# EAGLE library part USB_MICRO (library __MyCommonLib1)
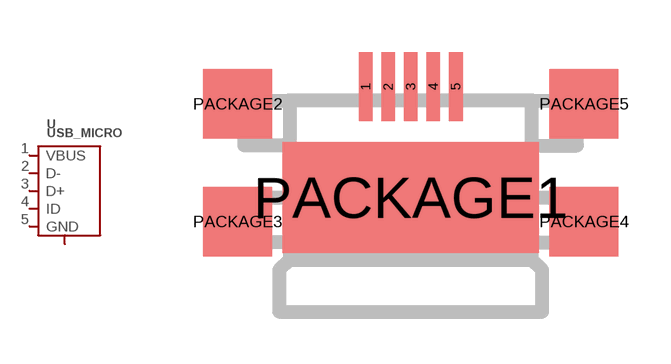
[diagram p7: symbol with the pads of USB_MICRO_TYPE_B; footprint USB_MICRO_TYPE_B]

Designator prefix -

## USB_MICROMICRO  [USB_MICRO_TYPE_B]
1  VBUS
2  D-
3  D+
4  ID
5  GND
PACKAGE1  PACKAGE
PACKAGE2  PACKAGE
PACKAGE3  PACKAGE
PACKAGE4  PACKAGE
PACKAGE5  PACKAGE

## Footprint USB_MICRO_TYPE_B (pad centres in mm)
smd 0.4 x 2: 1 -1.3,5.2; 2 -0.65,5.2; 3 0,5.2; 4 0.65,5.2; 5 1.3,5.2
smd 7.4 x 3.2: PACKAGE1 0,2
smd 2 x 2: PACKAGE2 -5,4.7; PACKAGE3 -5,1.3; PACKAGE4 5,1.3; PACKAGE5 5,4.7